# EAGLE library part UC_ATMEGA1284P (library SNWCT_EAGLE_LBR)
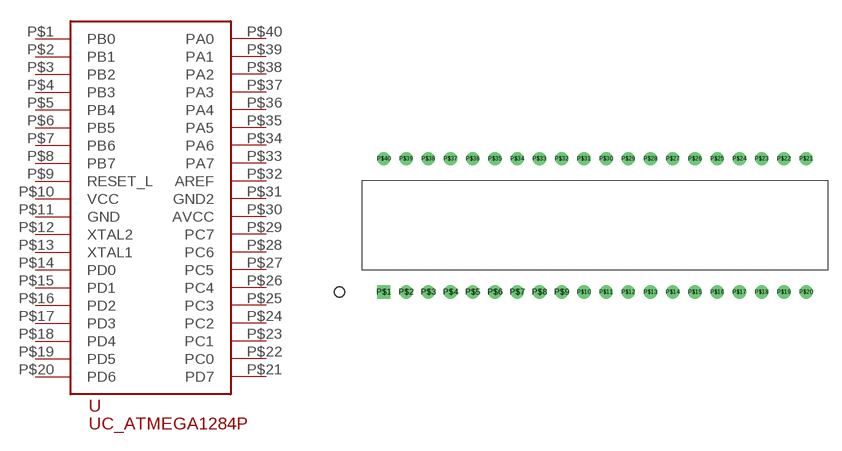
[diagram p3: symbol with the pads of 40-DIP; footprint 40-DIP]

Designator prefix -

## UC_ATMEGA1284P  [40-DIP]
P$1  PB0
P$2  PB1
P$3  PB2
P$4  PB3
P$5  PB4
P$6  PB5
P$7  PB6
P$8  PB7
P$9  RESET_L
P$10  VCC
P$11  GND
P$12  XTAL2
P$13  XTAL1
P$14  PD0
P$15  PD1
P$16  PD2
P$17  PD3
P$18  PD4
P$19  PD5
P$20  PD6
P$21  PD7
P$22  PC0
P$23  PC1
P$24  PC2
P$25  PC3
P$26  PC4
P$27  PC5
P$28  PC6
P$29  PC7
P$30  AVCC
P$31  GND2
P$32  AREF
P$33  PA7
P$34  PA6
P$35  PA5
P$36  PA4
P$37  PA3
P$38  PA2
P$39  PA1
P$40  PA0

## Footprint 40-DIP (pad centres in mm)
drill 1 square: P$1 0,0
drill 1: P$2 2.54,0; P$3 5.08,0; P$4 7.62,0; P$5 10.16,0; P$6 12.7,0; P$7 15.24,0; P$8 17.78,0; P$9 20.32,0; P$10 22.86,0; P$11 25.4,0; P$12 27.94,0; P$13 30.48,0; P$14 33.02,0; P$15 35.56,0; P$16 38.1,0; P$17 40.64,0; P$18 43.18,0; P$19 45.72,0; P$20 48.26,0; P$21 48.26,15.24; P$22 45.72,15.24; P$23 43.18,15.24; P$24 40.64,15.24; P$25 38.1,15.24; P$26 35.56,15.24; P$27 33.02,15.24; P$28 30.48,15.24; P$29 27.94,15.24; P$30 25.4,15.24; P$31 22.86,15.24; P$32 20.32,15.24; P$33 17.78,15.24; P$34 15.24,15.24; P$35 12.7,15.24; P$36 10.16,15.24; P$37 7.62,15.24; P$38 5.08,15.24; P$39 2.54,15.24; P$40 0,15.24